# Altium schematic symbol library lightGuide.SchLib: 1 symbol
Pins are listed as number, name and electrical type; pins without a type are passive.

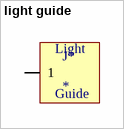
[diagram p0: symbol light guide]

## light guide
designator J*
light guide
footprint light_guide
pins: 1
text: Light; Guide